# Altium footprint library SOIC127P1030X265-28N.PcbLib: 1 footprints
Each footprint in its own frame and in the unit in brackets; x right, y up, seen from the top. Pads: shape width x height; smd on the part's side, far side on the other; paste and mask are expansions set on the pad; w line width, h text height; cw(c..) or ccw(c..) is an arc to the next point about the centre after c.
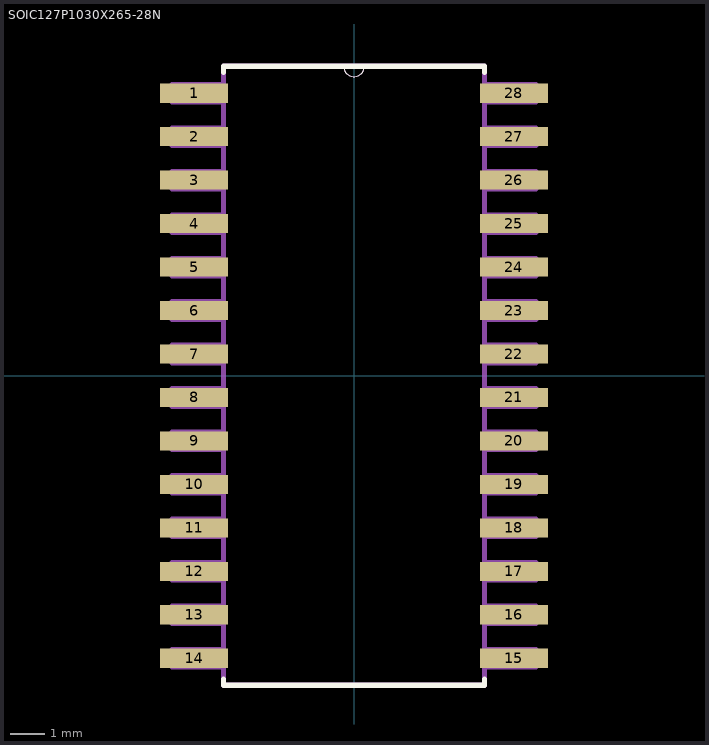
[diagram p0: the footprint, top view; thin cyan lines are the x and y axes]

## SOIC127P1030X265-28N [mil]
pads (28):
  rect 78x22 smd: 1(-184,325) 2(-184,275) 3(-184,225) 4(-184,175) 5(-184,125) 6(-184,75) 7(-184,25) 8(-184,-25) 9(-184,-75) 10(-184,-125) 11(-184,-175) 12(-184,-225) 13(-184,-275) 14(-184,-325) 15(184,-325) 16(184,-275) 17(184,-225) 18(184,-175) 19(184,-125) 20(184,-75) 21(184,-25) 22(184,25) 23(184,75) 24(184,125) 25(184,175) 26(184,225) 27(184,275) 28(184,325)
Top Overlay:
  lines w0: -12,356 ccw(c0,356) 12,356
  lines w6: -150,-349 -150,-356 150,-356 150,-349 ; -150,349 -150,356 -12,356 12,356 150,356 150,349
Mechanical 1:
  lines w0: -12,356 ccw(c0,356) 12,356
  lines w6: -209,-335 -150,-335 -150,-315 -209,-315 -209,-335 ; -209,-285 -150,-285 -150,-265 -209,-265 -209,-285 ; -209,-235 -150,-235 -150,-215 -209,-215 -209,-235 ; -209,-185 -150,-185 -150,-165 -209,-165 -209,-185 ; -209,-135 -150,-135 -150,-115 -209,-115 -209,-135 ; -209,-85 -150,-85 -150,-65 -209,-65 -209,-85 ; -209,-35 -150,-35 -150,-15 -209,-15 -209,-35 ; -209,15 -150,15 -150,35 -209,35 -209,15 ; -209,65 -150,65 -150,85 -209,85 -209,65 ; -209,115 -150,115 -150,135 -209,135 -209,115 ; -209,165 -150,165 -150,185 -209,185 -209,165 ; -209,215 -150,215 -150,235 -209,235 -209,215 ; -209,265 -150,265 -150,285 -209,285 -209,265 ; -209,315 -150,315 -150,335 -209,335 -209,315 ; -150,-356 -150,356 -12,356 12,356 150,356 150,-356 -150,-356 ; 150,-335 209,-335 209,-315 150,-315 150,-335 ; 150,-285 209,-285 209,-265 150,-265 150,-285 ; 150,-235 209,-235 209,-215 150,-215 150,-235 ; 150,-185 209,-185 209,-165 150,-165 150,-185 ; 150,-135 209,-135 209,-115 150,-115 150,-135 ; 150,-85 209,-85 209,-65 150,-65 150,-85 ; 150,-35 209,-35 209,-15 150,-15 150,-35 ; 150,15 209,15 209,35 150,35 150,15 ; 150,65 209,65 209,85 150,85 150,65 ; 150,115 209,115 209,135 150,135 150,115 ; 150,165 209,165 209,185 150,185 150,165 ; 150,215 209,215 209,235 150,235 150,215 ; 150,265 209,265 209,285 150,285 150,265 ; 150,315 209,315 209,335 150,335 150,315